# Altium integrated library LFXTAL003181.IntLib: 1 symbol
Pins are listed as number, name and electrical type; pins without a type are passive.

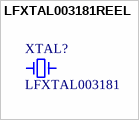
[diagram p0: symbol LFXTAL003181REEL]

## LFXTAL003181REEL
designator XTAL?, comment LFXTAL003181
20 MHz ±30ppm Crystal 16pF 40 Ohms HC-49/US; Supplier 1: Newark; Supplier Part Number 1: 02M6456
footprint XTAL1140X490X430N
pins: 1, 2